# EAGLE library part PCA9635 (library nxp semiconductors)
TSSOP28 package copied from "analog devices" library. Check dimensions
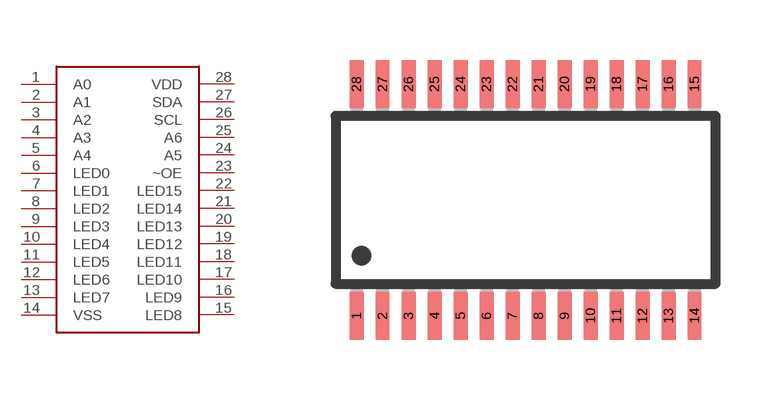
[diagram p0: symbol with the pads of TSSOP28; footprint TSSOP28]

Designator prefix -

## PCA9635  [TSSOP28]
1  A0
2  A1
3  A2
4  A3
5  A4
6  LED0
7  LED1
8  LED2
9  LED3
10  LED4
11  LED5
12  LED6
13  LED7
14  VSS
15  LED8
16  LED9
17  LED10
18  LED11
19  LED12
20  LED13
21  LED14
22  LED15
23  ~OE
24  A5
25  A6
26  SCL
27  SDA
28  VDD

## Footprint TSSOP28 (pad centres in mm)
smd 0.35 x 1.2: 1 -4.225,-2.9; 2 -3.575,-2.9; 3 -2.925,-2.9; 4 -2.275,-2.9; 5 -1.625,-2.9; 6 -0.975,-2.9; 7 -0.325,-2.9; 8 0.325,-2.9; 9 0.975,-2.9; 10 1.625,-2.9; 11 2.275,-2.9; 12 2.925,-2.9; 13 3.575,-2.9; 14 4.225,-2.9; 15 4.225,2.9; 16 3.575,2.9; 17 2.925,2.9; 18 2.275,2.9; 19 1.625,2.9; 20 0.975,2.9; 21 0.325,2.9; 22 -0.325,2.9; 23 -0.975,2.9; 24 -1.625,2.9; 25 -2.275,2.9; 26 -2.925,2.9; 27 -3.575,2.9; 28 -4.225,2.9